# Altium integrated library WD Peripheral HD Controller.IntLib: 13 symbols
Pins are listed as number, name and electrical type; pins without a type are passive.

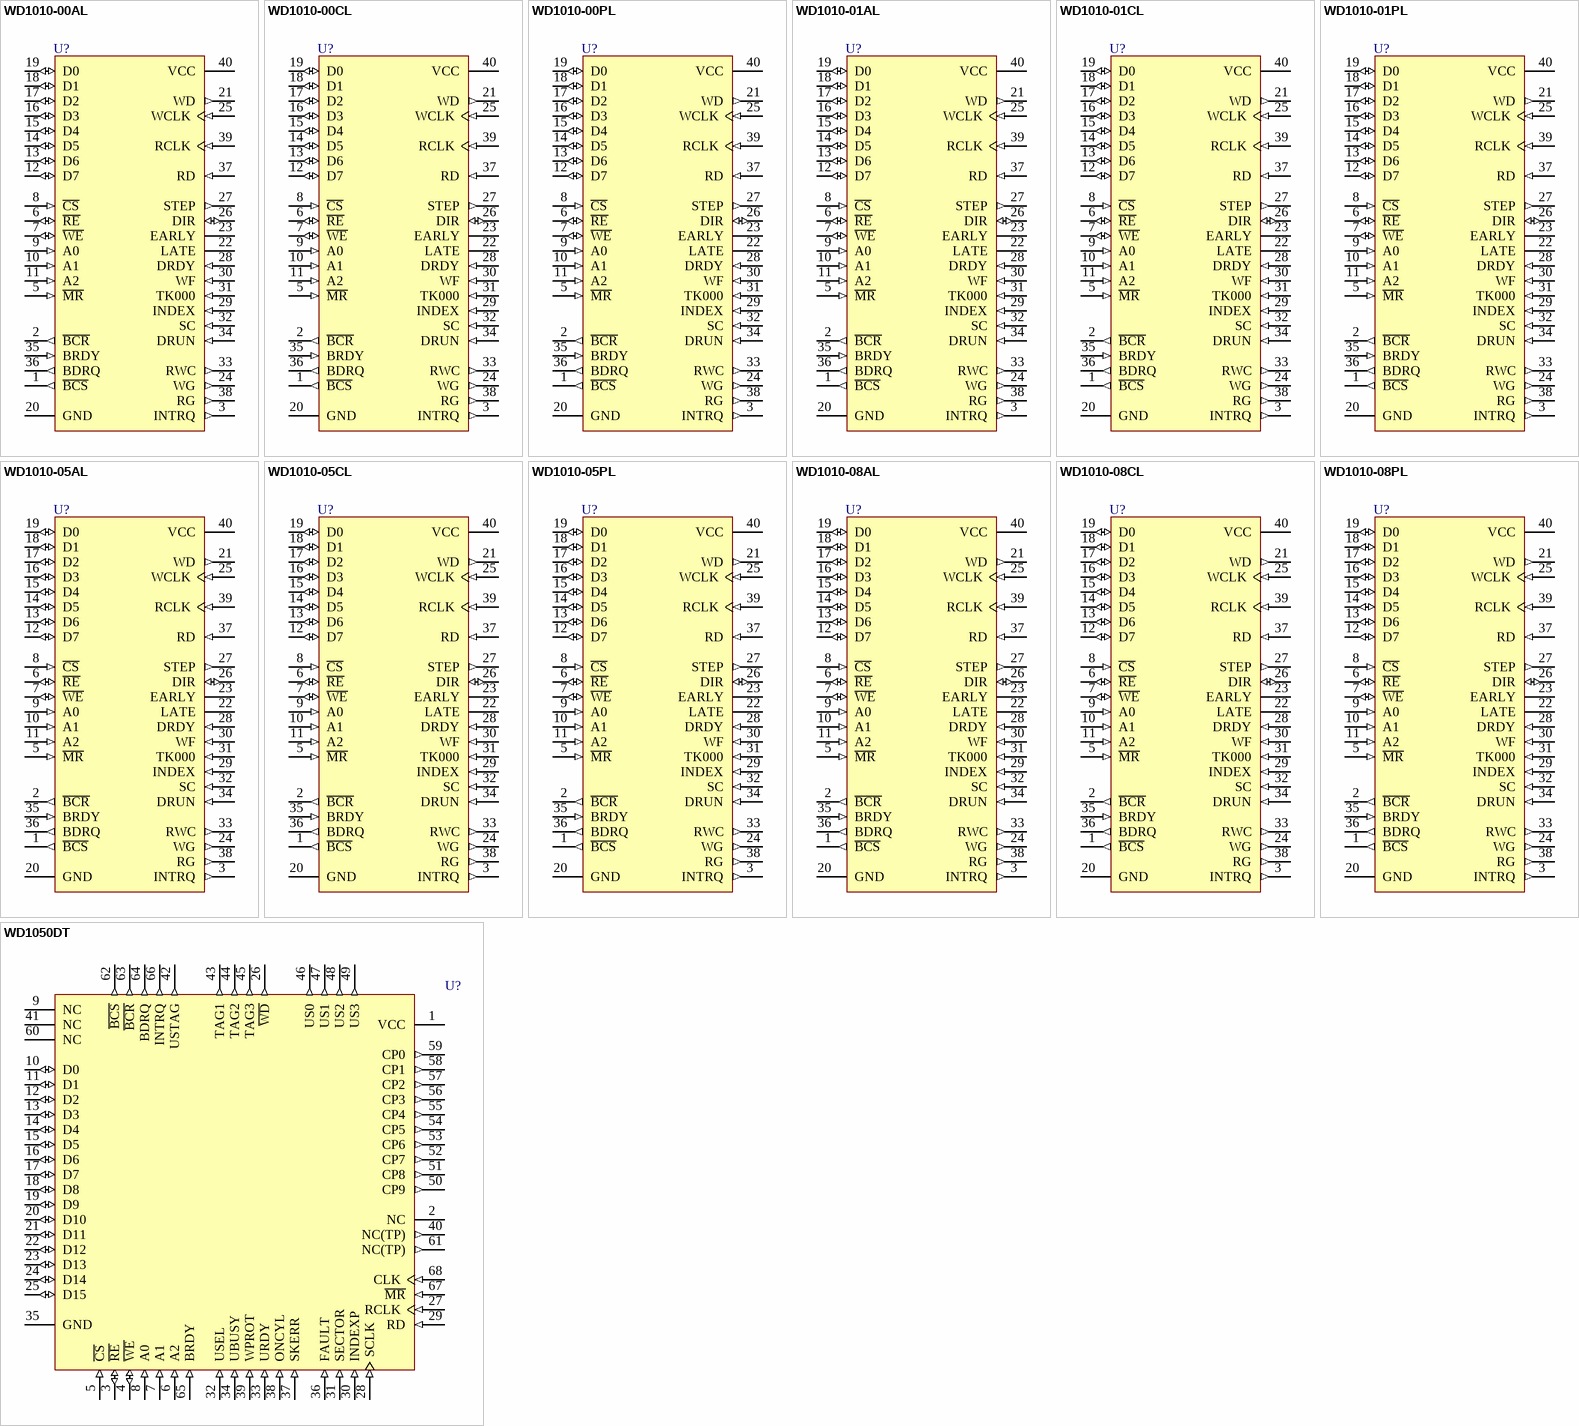
[diagram p0: symbols WD1010-00AL to WD1050DT]

## WD1010-00AL
designator U?
Winchester Disk Controller; PackageDocument: 1984; Published: 8-Jun-2000; LatestRevisionDate: 4-Mar-2005; LatestRevisionNote: Stylized 3D Model Added.; DatasheetDocument: 1984; PackageReference: AL40; Publisher: Altium Limited; ComponentLink1Description: Manufacturer Link; ComponentLink1URL: http://www.wdc.com/
footprint AL40 (DIP; 40 Leads; Row Spacing 15.24 mm; Pitch 2.54 mm)
3D model AL40 (DIP; 40 Leads; Row Spacing 15.24 mm; Pitch 2.54 mm)
pins: 1 ~{BCS} (out), 2 ~{BCR} (out), 3 INTRQ (out), 5 ~{MR} (in), 6 ~{RE} (io), 7 ~{WE} (io), 8 ~{CS} (in), 9 A0 (in), 10 A1 (in), 11 A2 (in), 12 D7 (io), 13 D6 (io), 14 D5 (io), 15 D4 (io), 16 D3 (io), 17 D2 (io), 18 D1 (io), 19 D0 (io), 20 GND (power), 21 WD (out), 22 LATE (oc), 23 EARLY (oc), 24 WG (out), 25 WCLK (in), 26 DIR (io), 27 STEP (out), 28 DRDY (in), 29 INDEX (in), 30 WF (in), 31 TK000 (in), 32 SC (in), 33 RWC (out), 34 DRUN (in), 35 BRDY (in), 36 BDRQ (out), 37 RD (in), 38 RG (out), 39 RCLK (in), 40 VCC (power)

## WD1010-00CL
designator U?
Winchester Disk Controller; PackageDocument: 1984; Published: 8-Jun-2000; LatestRevisionDate: 4-Mar-2005; LatestRevisionNote: Stylized 3D Model Added.; DatasheetDocument: 1984; PackageReference: CL40; Publisher: Altium Limited; ComponentLink1Description: Manufacturer Link; ComponentLink1URL: http://www.wdc.com/
footprint CL40 (DIP; 40 Leads; Row Spacing 15.24 mm; Pitch 2.54 mm)
3D model PL40 (DIP; 40 Leads; Row Spacing 15.24 mm; Pitch 2.54 mm)
pins: 1 ~{BCS} (out), 2 ~{BCR} (out), 3 INTRQ (out), 5 ~{MR} (in), 6 ~{RE} (io), 7 ~{WE} (io), 8 ~{CS} (in), 9 A0 (in), 10 A1 (in), 11 A2 (in), 12 D7 (io), 13 D6 (io), 14 D5 (io), 15 D4 (io), 16 D3 (io), 17 D2 (io), 18 D1 (io), 19 D0 (io), 20 GND (power), 21 WD (out), 22 LATE (oc), 23 EARLY (oc), 24 WG (out), 25 WCLK (in), 26 DIR (io), 27 STEP (out), 28 DRDY (in), 29 INDEX (in), 30 WF (in), 31 TK000 (in), 32 SC (in), 33 RWC (out), 34 DRUN (in), 35 BRDY (in), 36 BDRQ (out), 37 RD (in), 38 RG (out), 39 RCLK (in), 40 VCC (power)

## WD1010-00PL
designator U?
Winchester Disk Controller; PackageDocument: 1984; Published: 8-Jun-2000; LatestRevisionDate: 4-Mar-2005; LatestRevisionNote: Stylized 3D Model Added.; DatasheetDocument: 1984; PackageReference: PL40; Publisher: Altium Limited; ComponentLink1Description: Manufacturer Link; ComponentLink1URL: http://www.wdc.com/
footprint PL40 (DIP; 40 Leads; Row Spacing 15.24 mm; Pitch 2.54 mm)
3D model PL40 (DIP; 40 Leads; Row Spacing 15.24 mm; Pitch 2.54 mm)
pins: 1 ~{BCS} (out), 2 ~{BCR} (out), 3 INTRQ (out), 5 ~{MR} (in), 6 ~{RE} (io), 7 ~{WE} (io), 8 ~{CS} (in), 9 A0 (in), 10 A1 (in), 11 A2 (in), 12 D7 (io), 13 D6 (io), 14 D5 (io), 15 D4 (io), 16 D3 (io), 17 D2 (io), 18 D1 (io), 19 D0 (io), 20 GND (power), 21 WD (out), 22 LATE (oc), 23 EARLY (oc), 24 WG (out), 25 WCLK (in), 26 DIR (io), 27 STEP (out), 28 DRDY (in), 29 INDEX (in), 30 WF (in), 31 TK000 (in), 32 SC (in), 33 RWC (out), 34 DRUN (in), 35 BRDY (in), 36 BDRQ (out), 37 RD (in), 38 RG (out), 39 RCLK (in), 40 VCC (power)

## WD1010-01AL
designator U?
Winchester Disk Controller; PackageDocument: 1984; Published: 8-Jun-2000; LatestRevisionDate: 4-Mar-2005; LatestRevisionNote: Stylized 3D Model Added.; DatasheetDocument: 1984; PackageReference: AL40; Publisher: Altium Limited; ComponentLink1Description: Manufacturer Link; ComponentLink1URL: http://www.wdc.com/
footprint AL40 (DIP; 40 Leads; Row Spacing 15.24 mm; Pitch 2.54 mm)
3D model AL40 (DIP; 40 Leads; Row Spacing 15.24 mm; Pitch 2.54 mm)
pins: 1 ~{BCS} (out), 2 ~{BCR} (out), 3 INTRQ (out), 5 ~{MR} (in), 6 ~{RE} (io), 7 ~{WE} (io), 8 ~{CS} (in), 9 A0 (in), 10 A1 (in), 11 A2 (in), 12 D7 (io), 13 D6 (io), 14 D5 (io), 15 D4 (io), 16 D3 (io), 17 D2 (io), 18 D1 (io), 19 D0 (io), 20 GND (power), 21 WD (out), 22 LATE (oc), 23 EARLY (oc), 24 WG (out), 25 WCLK (in), 26 DIR (io), 27 STEP (out), 28 DRDY (in), 29 INDEX (in), 30 WF (in), 31 TK000 (in), 32 SC (in), 33 RWC (out), 34 DRUN (in), 35 BRDY (in), 36 BDRQ (out), 37 RD (in), 38 RG (out), 39 RCLK (in), 40 VCC (power)

## WD1010-01CL
designator U?
Winchester Disk Controller; PackageDocument: 1984; Published: 8-Jun-2000; LatestRevisionDate: 4-Mar-2005; LatestRevisionNote: Stylized 3D Model Added.; DatasheetDocument: 1984; PackageReference: CL40; Publisher: Altium Limited; ComponentLink1Description: Manufacturer Link; ComponentLink1URL: http://www.wdc.com/
footprint CL40 (DIP; 40 Leads; Row Spacing 15.24 mm; Pitch 2.54 mm)
3D model PL40 (DIP; 40 Leads; Row Spacing 15.24 mm; Pitch 2.54 mm)
pins: 1 ~{BCS} (out), 2 ~{BCR} (out), 3 INTRQ (out), 5 ~{MR} (in), 6 ~{RE} (io), 7 ~{WE} (io), 8 ~{CS} (in), 9 A0 (in), 10 A1 (in), 11 A2 (in), 12 D7 (io), 13 D6 (io), 14 D5 (io), 15 D4 (io), 16 D3 (io), 17 D2 (io), 18 D1 (io), 19 D0 (io), 20 GND (power), 21 WD (out), 22 LATE (oc), 23 EARLY (oc), 24 WG (out), 25 WCLK (in), 26 DIR (io), 27 STEP (out), 28 DRDY (in), 29 INDEX (in), 30 WF (in), 31 TK000 (in), 32 SC (in), 33 RWC (out), 34 DRUN (in), 35 BRDY (in), 36 BDRQ (out), 37 RD (in), 38 RG (out), 39 RCLK (in), 40 VCC (power)

## WD1010-01PL
designator U?
Winchester Disk Controller; PackageDocument: 1984; Published: 8-Jun-2000; LatestRevisionDate: 4-Mar-2005; LatestRevisionNote: Stylized 3D Model Added.; DatasheetDocument: 1984; PackageReference: PL40; Publisher: Altium Limited; ComponentLink1Description: Manufacturer Link; ComponentLink1URL: http://www.wdc.com/
footprint PL40 (DIP; 40 Leads; Row Spacing 15.24 mm; Pitch 2.54 mm)
3D model PL40 (DIP; 40 Leads; Row Spacing 15.24 mm; Pitch 2.54 mm)
pins: 1 ~{BCS} (out), 2 ~{BCR} (out), 3 INTRQ (out), 5 ~{MR} (in), 6 ~{RE} (io), 7 ~{WE} (io), 8 ~{CS} (in), 9 A0 (in), 10 A1 (in), 11 A2 (in), 12 D7 (io), 13 D6 (io), 14 D5 (io), 15 D4 (io), 16 D3 (io), 17 D2 (io), 18 D1 (io), 19 D0 (io), 20 GND (power), 21 WD (out), 22 LATE (oc), 23 EARLY (oc), 24 WG (out), 25 WCLK (in), 26 DIR (io), 27 STEP (out), 28 DRDY (in), 29 INDEX (in), 30 WF (in), 31 TK000 (in), 32 SC (in), 33 RWC (out), 34 DRUN (in), 35 BRDY (in), 36 BDRQ (out), 37 RD (in), 38 RG (out), 39 RCLK (in), 40 VCC (power)

## WD1010-05AL
designator U?
Winchester Disk Controller; PackageDocument: 1984; Published: 8-Jun-2000; LatestRevisionDate: 4-Mar-2005; LatestRevisionNote: Stylized 3D Model Added.; DatasheetDocument: 1984; PackageReference: AL40; Publisher: Altium Limited; ComponentLink1Description: Manufacturer Link; ComponentLink1URL: http://www.wdc.com/
footprint AL40 (DIP; 40 Leads; Row Spacing 15.24 mm; Pitch 2.54 mm)
3D model AL40 (DIP; 40 Leads; Row Spacing 15.24 mm; Pitch 2.54 mm)
pins: 1 ~{BCS} (out), 2 ~{BCR} (out), 3 INTRQ (out), 5 ~{MR} (in), 6 ~{RE} (io), 7 ~{WE} (io), 8 ~{CS} (in), 9 A0 (in), 10 A1 (in), 11 A2 (in), 12 D7 (io), 13 D6 (io), 14 D5 (io), 15 D4 (io), 16 D3 (io), 17 D2 (io), 18 D1 (io), 19 D0 (io), 20 GND (power), 21 WD (out), 22 LATE (oc), 23 EARLY (oc), 24 WG (out), 25 WCLK (in), 26 DIR (io), 27 STEP (out), 28 DRDY (in), 29 INDEX (in), 30 WF (in), 31 TK000 (in), 32 SC (in), 33 RWC (out), 34 DRUN (in), 35 BRDY (in), 36 BDRQ (out), 37 RD (in), 38 RG (out), 39 RCLK (in), 40 VCC (power)

## WD1010-05CL
designator U?
Winchester Disk Controller; PackageDocument: 1984; Published: 8-Jun-2000; LatestRevisionDate: 4-Mar-2005; LatestRevisionNote: Stylized 3D Model Added.; DatasheetDocument: 1984; PackageReference: CL40; Publisher: Altium Limited; ComponentLink1Description: Manufacturer Link; ComponentLink1URL: http://www.wdc.com/
footprint CL40 (DIP; 40 Leads; Row Spacing 15.24 mm; Pitch 2.54 mm)
3D model PL40 (DIP; 40 Leads; Row Spacing 15.24 mm; Pitch 2.54 mm)
pins: 1 ~{BCS} (out), 2 ~{BCR} (out), 3 INTRQ (out), 5 ~{MR} (in), 6 ~{RE} (io), 7 ~{WE} (io), 8 ~{CS} (in), 9 A0 (in), 10 A1 (in), 11 A2 (in), 12 D7 (io), 13 D6 (io), 14 D5 (io), 15 D4 (io), 16 D3 (io), 17 D2 (io), 18 D1 (io), 19 D0 (io), 20 GND (power), 21 WD (out), 22 LATE (oc), 23 EARLY (oc), 24 WG (out), 25 WCLK (in), 26 DIR (io), 27 STEP (out), 28 DRDY (in), 29 INDEX (in), 30 WF (in), 31 TK000 (in), 32 SC (in), 33 RWC (out), 34 DRUN (in), 35 BRDY (in), 36 BDRQ (out), 37 RD (in), 38 RG (out), 39 RCLK (in), 40 VCC (power)

## WD1010-05PL
designator U?
Winchester Disk Controller; PackageDocument: 1984; Published: 8-Jun-2000; LatestRevisionDate: 4-Mar-2005; LatestRevisionNote: Stylized 3D Model Added.; DatasheetDocument: 1984; PackageReference: PL40; Publisher: Altium Limited; ComponentLink1Description: Manufacturer Link; ComponentLink1URL: http://www.wdc.com/
footprint PL40 (DIP; 40 Leads; Row Spacing 15.24 mm; Pitch 2.54 mm)
3D model PL40 (DIP; 40 Leads; Row Spacing 15.24 mm; Pitch 2.54 mm)
pins: 1 ~{BCS} (out), 2 ~{BCR} (out), 3 INTRQ (out), 5 ~{MR} (in), 6 ~{RE} (io), 7 ~{WE} (io), 8 ~{CS} (in), 9 A0 (in), 10 A1 (in), 11 A2 (in), 12 D7 (io), 13 D6 (io), 14 D5 (io), 15 D4 (io), 16 D3 (io), 17 D2 (io), 18 D1 (io), 19 D0 (io), 20 GND (power), 21 WD (out), 22 LATE (oc), 23 EARLY (oc), 24 WG (out), 25 WCLK (in), 26 DIR (io), 27 STEP (out), 28 DRDY (in), 29 INDEX (in), 30 WF (in), 31 TK000 (in), 32 SC (in), 33 RWC (out), 34 DRUN (in), 35 BRDY (in), 36 BDRQ (out), 37 RD (in), 38 RG (out), 39 RCLK (in), 40 VCC (power)

## WD1010-08AL
designator U?
Winchester Disk Controller; PackageDocument: 1984; Published: 8-Jun-2000; LatestRevisionDate: 4-Mar-2005; LatestRevisionNote: Stylized 3D Model Added.; DatasheetDocument: 1984; PackageReference: AL40; Publisher: Altium Limited; ComponentLink1Description: Manufacturer Link; ComponentLink1URL: http://www.wdc.com/
footprint AL40 (DIP; 40 Leads; Row Spacing 15.24 mm; Pitch 2.54 mm)
3D model AL40 (DIP; 40 Leads; Row Spacing 15.24 mm; Pitch 2.54 mm)
pins: 1 ~{BCS} (out), 2 ~{BCR} (out), 3 INTRQ (out), 5 ~{MR} (in), 6 ~{RE} (io), 7 ~{WE} (io), 8 ~{CS} (in), 9 A0 (in), 10 A1 (in), 11 A2 (in), 12 D7 (io), 13 D6 (io), 14 D5 (io), 15 D4 (io), 16 D3 (io), 17 D2 (io), 18 D1 (io), 19 D0 (io), 20 GND (power), 21 WD (out), 22 LATE (oc), 23 EARLY (oc), 24 WG (out), 25 WCLK (in), 26 DIR (io), 27 STEP (out), 28 DRDY (in), 29 INDEX (in), 30 WF (in), 31 TK000 (in), 32 SC (in), 33 RWC (out), 34 DRUN (in), 35 BRDY (in), 36 BDRQ (out), 37 RD (in), 38 RG (out), 39 RCLK (in), 40 VCC (power)

## WD1010-08CL
designator U?
Winchester Disk Controller; PackageDocument: 1984; Published: 8-Jun-2000; LatestRevisionDate: 4-Mar-2005; LatestRevisionNote: Stylized 3D Model Added.; DatasheetDocument: 1984; PackageReference: CL40; Publisher: Altium Limited; ComponentLink1Description: Manufacturer Link; ComponentLink1URL: http://www.wdc.com/
footprint CL40 (DIP; 40 Leads; Row Spacing 15.24 mm; Pitch 2.54 mm)
3D model PL40 (DIP; 40 Leads; Row Spacing 15.24 mm; Pitch 2.54 mm)
pins: 1 ~{BCS} (out), 2 ~{BCR} (out), 3 INTRQ (out), 5 ~{MR} (in), 6 ~{RE} (io), 7 ~{WE} (io), 8 ~{CS} (in), 9 A0 (in), 10 A1 (in), 11 A2 (in), 12 D7 (io), 13 D6 (io), 14 D5 (io), 15 D4 (io), 16 D3 (io), 17 D2 (io), 18 D1 (io), 19 D0 (io), 20 GND (power), 21 WD (out), 22 LATE (oc), 23 EARLY (oc), 24 WG (out), 25 WCLK (in), 26 DIR (io), 27 STEP (out), 28 DRDY (in), 29 INDEX (in), 30 WF (in), 31 TK000 (in), 32 SC (in), 33 RWC (out), 34 DRUN (in), 35 BRDY (in), 36 BDRQ (out), 37 RD (in), 38 RG (out), 39 RCLK (in), 40 VCC (power)

## WD1010-08PL
designator U?
Winchester Disk Controller; PackageDocument: 1984; Published: 8-Jun-2000; LatestRevisionDate: 4-Mar-2005; LatestRevisionNote: Stylized 3D Model Added.; DatasheetDocument: 1984; PackageReference: PL40; Publisher: Altium Limited; ComponentLink1Description: Manufacturer Link; ComponentLink1URL: http://www.wdc.com/
footprint PL40 (DIP; 40 Leads; Row Spacing 15.24 mm; Pitch 2.54 mm)
3D model PL40 (DIP; 40 Leads; Row Spacing 15.24 mm; Pitch 2.54 mm)
pins: 1 ~{BCS} (out), 2 ~{BCR} (out), 3 INTRQ (out), 5 ~{MR} (in), 6 ~{RE} (io), 7 ~{WE} (io), 8 ~{CS} (in), 9 A0 (in), 10 A1 (in), 11 A2 (in), 12 D7 (io), 13 D6 (io), 14 D5 (io), 15 D4 (io), 16 D3 (io), 17 D2 (io), 18 D1 (io), 19 D0 (io), 20 GND (power), 21 WD (out), 22 LATE (oc), 23 EARLY (oc), 24 WG (out), 25 WCLK (in), 26 DIR (io), 27 STEP (out), 28 DRDY (in), 29 INDEX (in), 30 WF (in), 31 TK000 (in), 32 SC (in), 33 RWC (out), 34 DRUN (in), 35 BRDY (in), 36 BDRQ (out), 37 RD (in), 38 RG (out), 39 RCLK (in), 40 VCC (power)

## WD1050DT
designator U?
SMD Controller/Formatter; PackageDocument: 1986; Published: 8-Jun-2000; LatestRevisionDate: 17-Jul-2002; LatestRevisionNote: Re-released for DXP Platform.; DatasheetDocument: 1984; PackageReference: DT68; Publisher: Altium Limited; ComponentLink1Description: Manufacturer Link; ComponentLink1URL: http://www.wdc.com/
footprint DT68 (Leadless Chip Carrier; 68 Terminals; Body 24.1 x 24.1 mm)
pins: 1 VCC (power), 2 NC, 3 ~{RE} (io), 4 ~{WE} (io), 5 ~{CS} (in), 6 A2 (in), 7 A1 (in), 8 A0 (in), 9 NC, 10 D0 (io), 11 D1 (io), 12 D2 (io), 13 D3 (io), 14 D4 (io), 15 D5 (io), 16 D6 (io), 17 D7 (io), 18 D8 (io), 19 D9 (io), 20 D10 (io), 21 D11 (io), 22 D12 (io), 23 D13 (io), 24 D14 (io), 25 D15 (io), 26 ~{WD} (out), 27 RCLK (in), 28 SCLK (in), 29 RD (in), 30 INDEXP (in), 31 SECTOR (in), 32 USEL (in), 33 URDY (in), 34 UBUSY (in), 35 GND (power), 36 FAULT (in), 37 SKERR (in), 38 ONCYL (in), 39 WPROT (in), 40 NC(TP) (out), 41 NC, 42 USTAG (out), 43 TAG1 (out), 44 TAG2 (out), 45 TAG3 (out), 46 US0 (out), 47 US1 (out), 48 US2 (out), 49 US3 (out), 50 CP9 (out), 51 CP8 (out), 52 CP7 (out), 53 CP6 (out), 54 CP5 (out), 55 CP4 (out), 56 CP3 (out), 57 CP2 (out), 58 CP1 (out), 59 CP0 (out), 60 NC, 61 NC(TP) (out), 62 ~{BCS} (out), 63 ~{BCR} (out), 64 BDRQ (out), 65 BRDY (in), 66 INTRQ (out), 67 ~{MR} (in), 68 CLK (in)